# Altium schematic symbol library E-Component Mechanical.SCHLIB: 7 symbols
Pins are listed as number, name and electrical type; pins without a type are passive.

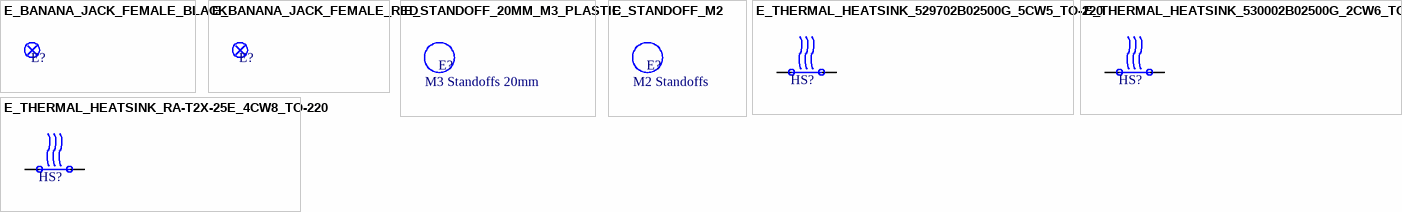
[diagram p0: symbols E_BANANA_JACK_FEMALE_BLACK to E_THERMAL_HEATSINK_RA-T2X-25E_4CW8_TO-220]

## E_BANANA_JACK_FEMALE_BLACK
designator E?  (value not drawn)
CONN JACK BANANA INSUL NYLON BLACK; Supplier - Digikey: J152-ND
footprint THT_BANANA_JACK (Banana Jack)

## E_BANANA_JACK_FEMALE_RED
designator E?  (value not drawn)
CONN JACK BANANA INSUL NYLON RED; Supplier - Digikey: J151-ND
footprint THT_BANANA_JACK (Banana Jack)

## E_STANDOFF_20MM_M3_PLASTIC
designator E?  Type: M3 Standoffs 20mm  (hidden comment: E_STANDOFF_20MM_M3_PLASTIC)
HEX STANDOFF M3 NYLON 20MM; Supplier - Digikey: 36-25505-ND
footprint THT_STANDOFF_20MM_M3

## E_STANDOFF_M2
designator E?  Type: M2 Standoffs  (hidden comment: E_STANDOFF_M2)
STANDOFF M2
footprint THT_STANDOFF_M2

## E_THERMAL_HEATSINK_529702B02500G_5CW5_TO-220
designator HS?  (value not drawn)
Heat Sink, 5.5C°/W, TO-220 compatible; Supplier - Digikey: HS404-ND; Type: 529702B02500G
footprint THT_530002B02500G
pins: 1, 2

## E_THERMAL_HEATSINK_530002B02500G_2CW6_TO-220
designator HS?  (value not drawn)
Heat Sink, 2.6C°/W, TO-220 compatible; Supplier - Digikey: HS380-ND; Type: 530002B02500G
footprint THT_530002B02500G (Heat Sink 530002B02500G)
pins: 1, 2

## E_THERMAL_HEATSINK_RA-T2X-25E_4CW8_TO-220
designator HS?, comment E_THERMAL_HEATSINK_RA-T2X-25E  (value not drawn)
HEATSINK FOR TO-220 218 247 1.0"; Value: 4.8°C/W; Supplier - Digikey: RA-T2X-25E-ND; Type: RA-T2X-25E
footprint THT_RA-T2X-25E
pins: 1, 2